# Altium footprint library Header_TE_Connectivity_826936-2_2POS_5A.PcbLib: 1 footprints
Each footprint in its own frame and in the unit in brackets; x right, y up, seen from the top. Pads: shape width x height; smd on the part's side, far side on the other; paste and mask are expansions set on the pad; w line width, h text height; cw(c..) or ccw(c..) is an arc to the next point about the centre after c.
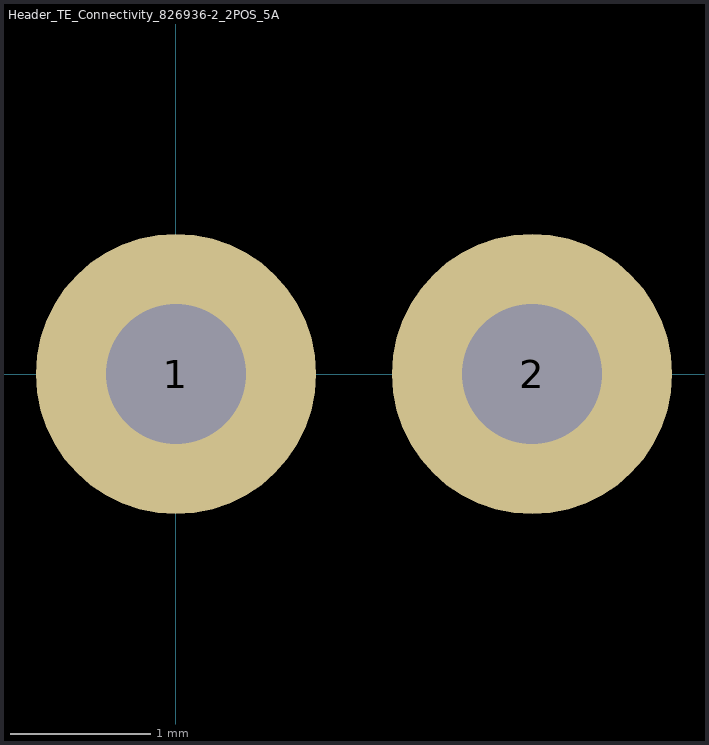
[diagram p0: the footprint, top view; thin cyan lines are the x and y axes]

## Header_TE_Connectivity_826936-2_2POS_5A [mm]
pads (2):
  round 2 hole 1: 1(0,0) 2(2.54,0)
3D body "c-826936-2-h-3d.stp": height 8.7, standoff -3.1, extent -1.27,-1.25 3.81,1.25